# Altium footprint library E2S_E2S_033_V1.PcbLib: 4 footprints
Each footprint in its own frame and in the unit in brackets; x right, y up, seen from the top. Pads: shape width x height; smd on the part's side, far side on the other; paste and mask are expansions set on the pad; w line width, h text height; cw(c..) or ccw(c..) is an arc to the next point about the centre after c.
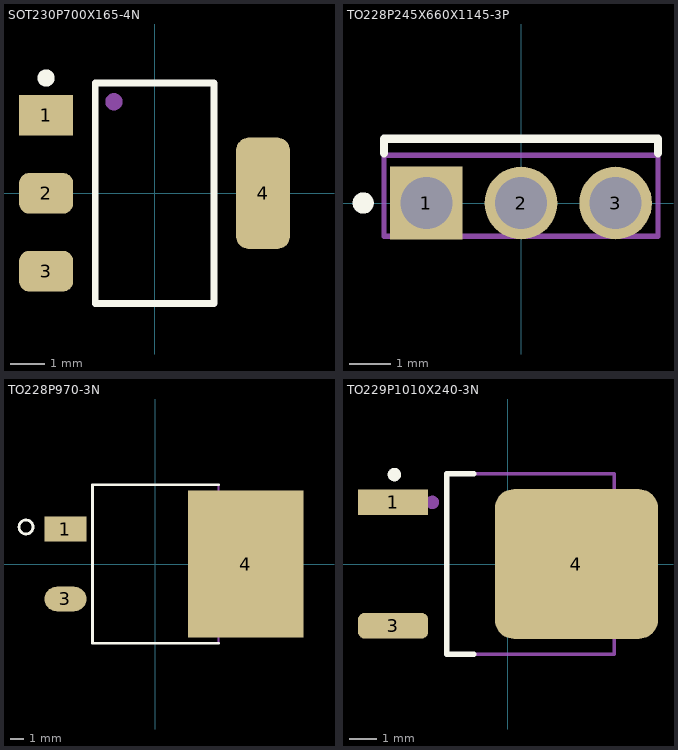
[diagram p0: the footprints below, top view; thin cyan lines are the x and y axes]

## SOT230P700X165-4N [mm] "SOT223, 4-Leads, Body 6.50x7.00mm (avg), Pitch 2.30mm, IPC Medium Density"
height 1.65
pads (4):
  rect 1.6x1.2 smd: 1(-3.2,2.3)
  rrect50% 1.6x1.2 smd: 2(-3.2,0) 3(-3.2,-2.3)
  rrect50% 1.6x3.3 smd: 4(3.2,0)
Top Overlay:
  circle w0.254: c-3.2,3.4 r0.127
  lines w0.2: -1.75,-3.25 1.75,-3.25 1.75,3.25 -1.75,3.25 -1.75,-3.25
Mechanical 1:
  text ".Designator" at 0,0.286 h1.52
Mechanical 15:
  circle w0.254: c-1.2,2.7 r0.127
  lines w0.127: -1.775,-3.275 1.775,-3.275 1.775,3.275 -1.775,3.275 -1.775,-3.275
3D body "SOT230P700X165-4N.step": height 1.65, standoff 0, extent -3.5,-3.275 3.5,3.275

## TO228P245X660X1145-3P [mm] "MOSFET N-CHANNEL 60V 30A TO251"
height 11.45
pads (3):
  rect 1.75x1.75 hole 1.25: 1(-2.28,0)
  round 1.75 hole 1.25: 2(0,0) 3(2.28,0)
Top Overlay:
  circle w0.254: c-3.8,0 r0.127
  lines w0.203: -3.3,1.2 -3.3,1.55 3.3,1.55 3.3,1.2
Mechanical 1:
  text ".Designator" at 0,-0.109 h1.02
Mechanical 15:
  circle w0.254: c-2.8,-0.3 r0.127
  lines w0.127: -3.3,1.15 3.3,1.15 ; -3.3,-0.8 3.3,-0.8 3.3,1.55 -3.3,1.55 -3.3,-0.8
3D body: height 8.15, standoff 0, extent -3.3,-0.8 3.3,1.55

## TO228P970-3N [mm]
height 5.1
pads (3):
  rect 3.05x1.78 smd: 1(-6.537,2.54)
  oval 3.05x1.78 smd: 3(-6.537,-2.54)
  rect 8.38x10.66 smd: 4(6.538,0)
Top Overlay:
  circle w0.203: c-9.397,2.685 r0.508
  lines w0.203: 4.57,-5.75 -4.57,-5.75 -4.57,5.75 4.57,5.75
Mechanical 1:
  text "'.Designator'" at 0,0 h1.52
Mechanical 15:
  circle w0.127: c-6.537,2.54 r0.635
  lines w0.127: -4.57,-5.75 4.57,-5.75 4.57,5.75 -4.57,5.75 -4.57,-5.75
3D body: height 4.83, standoff 0, extent -5.675,-5.325 9.57,5.325

## TO229P1010X240-3N [mm] "TO-252-3, DPak (2 Leads + Tab)"
height 2.4
pads (3):
  rect 2.6x0.95 smd: 1(-4.25,2.29)
  rrect50% 2.6x0.95 smd: 3(-4.25,-2.29)
  rrect25% 6.05x5.55 smd: 4(2.55,0)
Top Overlay:
  circle w0.25: c-4.2,3.315 r0.125
  lines w0.203: -1.25,-3.35 -2.25,-3.35 -2.25,3.35 -1.25,3.35
Mechanical 1:
  text ".Designator" at 0,0 h1.02
Mechanical 15:
  circle w0.25: c-2.794,2.286 r0.125
  lines w0.127: -2.25,-3.35 -2.25,3.35 3.95,3.35 3.95,-3.35 -2.25,-3.35
3D body "TO229P1010X240-3N.step": height 2.4, standoff 0, extent -4.904,-3.35 5.196,3.35